# Altium schematic symbol library RTD.SchLib: 1 symbol
Pins are listed as number, name and electrical type; pins without a type are passive.

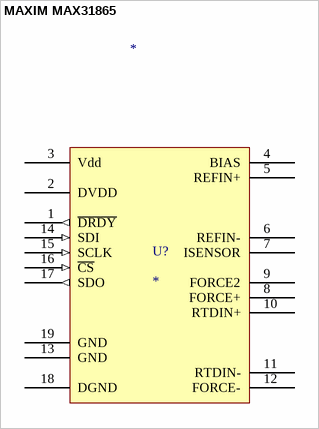
[diagram p0: symbol MAXIM MAX31865]

## MAXIM MAX31865
designator U?
Resistance to digital converter; PartNumber: *
pins: 1 ~{DRDY} (out), 2 DVDD (power), 3 Vdd (power), 4 BIAS, 5 REFIN+, 6 REFIN-, 7 ISENSOR, 8 FORCE+, 9 FORCE2, 10 RTDIN+, 11 RTDIN-, 12 FORCE-, 13 GND, 14 SDI (in), 15 SCLK (in), 16 ~{CS} (in), 17 SDO (out), 18 DGND (power), 19 GND (power)